# Altium schematic symbol library samtec.SchLib: 2 symbols
Pins are listed as number, name and electrical type; pins without a type are passive.

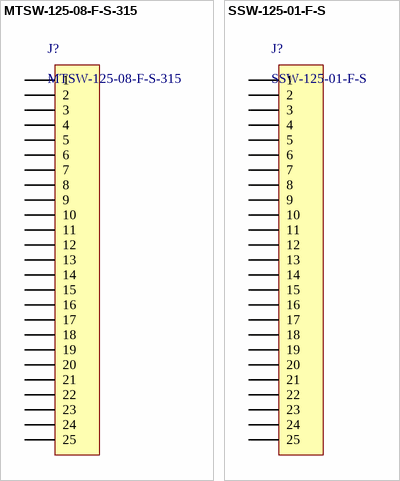
[diagram p0: symbols MTSW-125-08-F-S-315 to SSW-125-01-F-S]

## MTSW-125-08-F-S-315
designator J?
25 Pin Header, Single Row, 0.5"
footprint MTSW-125-08-F-S-315
pins: 1, 2, 3, 4, 5, 6, 7, 8, 9, 10, 11, 12, 13, 14, 15, 16, 17, 18, 19, 20, 21, 22, 23, 24, 25

## SSW-125-01-F-S
designator J?
25 Pin Header, Single Row, 0.5"
footprint SSW-125-01-F-S
pins: 1, 2, 3, 4, 5, 6, 7, 8, 9, 10, 11, 12, 13, 14, 15, 16, 17, 18, 19, 20, 21, 22, 23, 24, 25